# Altium schematic symbol library XDAmpLib.SchLib: 14 symbols
Pins are listed as number, name and electrical type; pins without a type are passive.

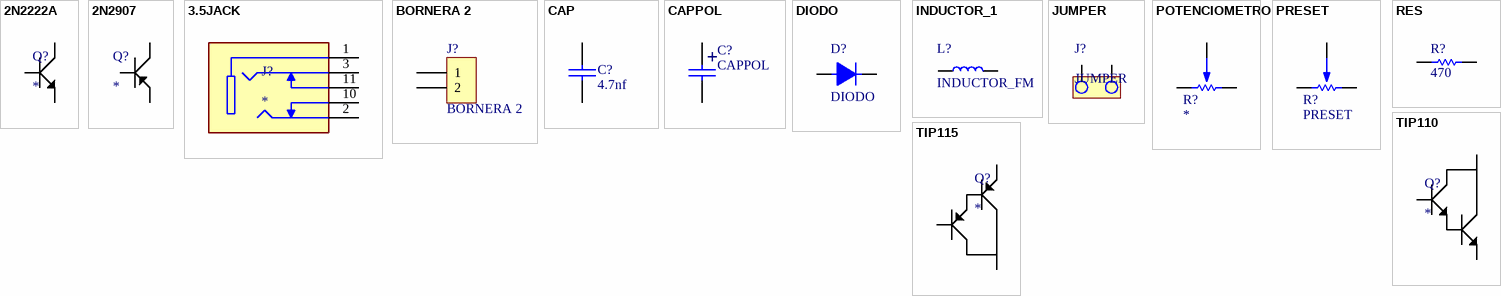
[diagram p0: symbols 2N2222A to TIP115]

## 2N2222A
designator Q?
Manufacturer: JSMSEMI; Supplier: JLCPCB; Supplier Part Number: C916390
footprint TO-18
pins: 1, 2, 3

## 2N2907
designator Q?
footprint TO-18
pins: 1, 2, 3

## 3.5JACK
designator J?
3.5 mm Right-Angle Stereo Jack, 5 Pin PCB Mount, Non-Threaded; MP: SJ1-3525N; Package: None; Price: None; Value: *; Availability: Unavailable
footprint 3.5JACK
pins: 1, 2, 3, 10, 11

## BORNERA 2
designator J?
footprint BORNERA2 (Bornera con Tornillos 5mm separación)
pins: 1, 2

## CAP
designator C?, comment 4.7nf
Capacitor SMD 4.7nF
footprint 0805CAP
footprint CAP100
pins: 1, 2

## CAPPOL
designator C?
footprint CAP100RP
footprint CAP300RP
pins: 1, 2
text: +

## DIODO
designator D?
footprint DO41
pins: 1, 2

## INDUCTOR_1
designator L?, comment INDUCTOR_FM
footprint RADIALIND
pins: 1, 2

## JUMPER
designator J?
footprint JUMPER2
pins: 1, 2

## POTENCIOMETRO
designator R?
footprint POTENCIOMETRO
pins: 1, 2, 3

## PRESET
designator R?
footprint PRESET V
pins: 1, 2, 3

## RES
designator R?, comment 470
Resistencia SMD 470ohms
footprint 0805
footprint RES600
footprint RES400
footprint RES1200
pins: 1, 2

## TIP110
designator Q?
Manufacturer: JSMSEMI; Supplier: JLCPCB; Supplier Part Number: C916390
footprint TO-220
pins: 1, 2, 3

## TIP115
designator Q?
Manufacturer: JSMSEMI; Supplier: JLCPCB; Supplier Part Number: C916390
footprint TO-220
pins: 1, 2, 3